# Altium schematic symbol library CON3X2.SchLib: 1 symbol
Pins are listed as number, name and electrical type; pins without a type are passive.

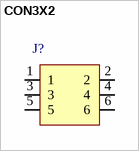
[diagram p0: symbol CON3X2]

## CON3X2
designator J?
footprint 2x3HDR_2mm
pins: 1, 2, 3, 4, 5, 6